# Altium schematic symbol library ZXSC300.SchLib: 1 symbol
Pins are listed as number, name and electrical type; pins without a type are passive.

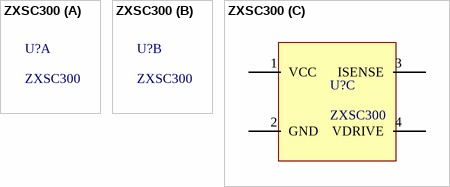
[diagram p0: symbol ZXSC300]

## ZXSC300
designator U?
part C pins: 1 VCC, 2 GND, 3 ISENSE, 4 VDRIVE